# Altium footprint library IND-1210.PcbLib: 1 footprints
Each footprint in its own frame and in the unit in brackets; x right, y up, seen from the top. Pads: shape width x height; smd on the part's side, far side on the other; paste and mask are expansions set on the pad; w line width, h text height; cw(c..) or ccw(c..) is an arc to the next point about the centre after c.
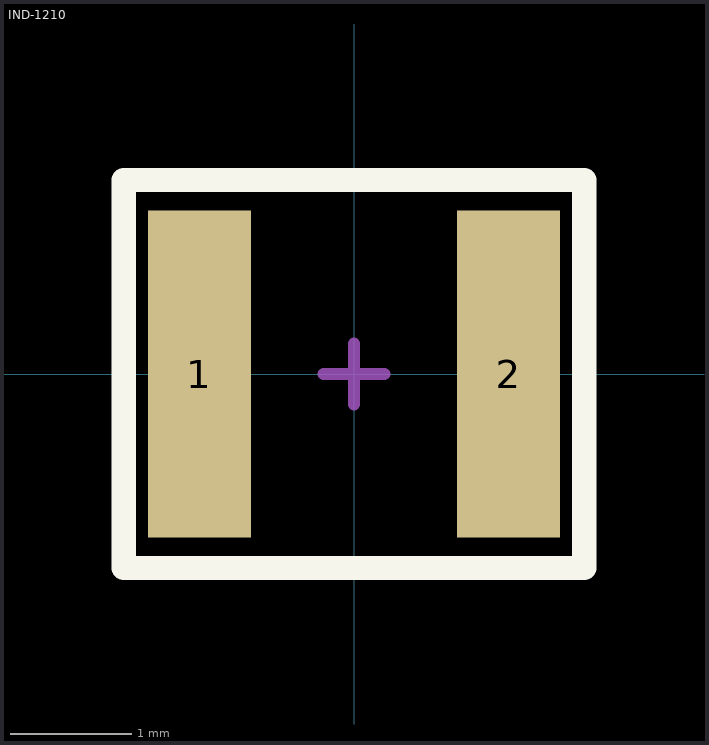
[diagram p0: the footprint, top view; thin cyan lines are the x and y axes]

## IND-1210 [mm]
height 0.55
pads (2):
  rect 0.85x2.7 smd: 1(-1.275,0) 2(1.275,0)
Top Overlay:
  lines w0.2: -1.9,-1.6 -1.9,1.6 1.9,1.6 1.9,-1.6 -1.9,-1.6
Top Assembly:
  lines w0.1: -0.25,0 0.25,0 ; 0,-0.25 0,0.25 ; -1.9,-1.6 -1.9,1.6 1.9,1.6 1.9,-1.6 -1.9,-1.6
  text "'.Designator'" at 0,0 h0.7
3D body "User Library-CAPC3225.STEP": height 2.5, standoff 0, extent -1.6,-1.25 1.6,1.25